# Altium footprint library atmel-packages.PcbLib: 6 footprints
Each footprint in its own frame and in the unit in brackets; x right, y up, seen from the top. Pads: shape width x height; smd on the part's side, far side on the other; paste and mask are expansions set on the pad; w line width, h text height; cw(c..) or ccw(c..) is an arc to the next point about the centre after c.
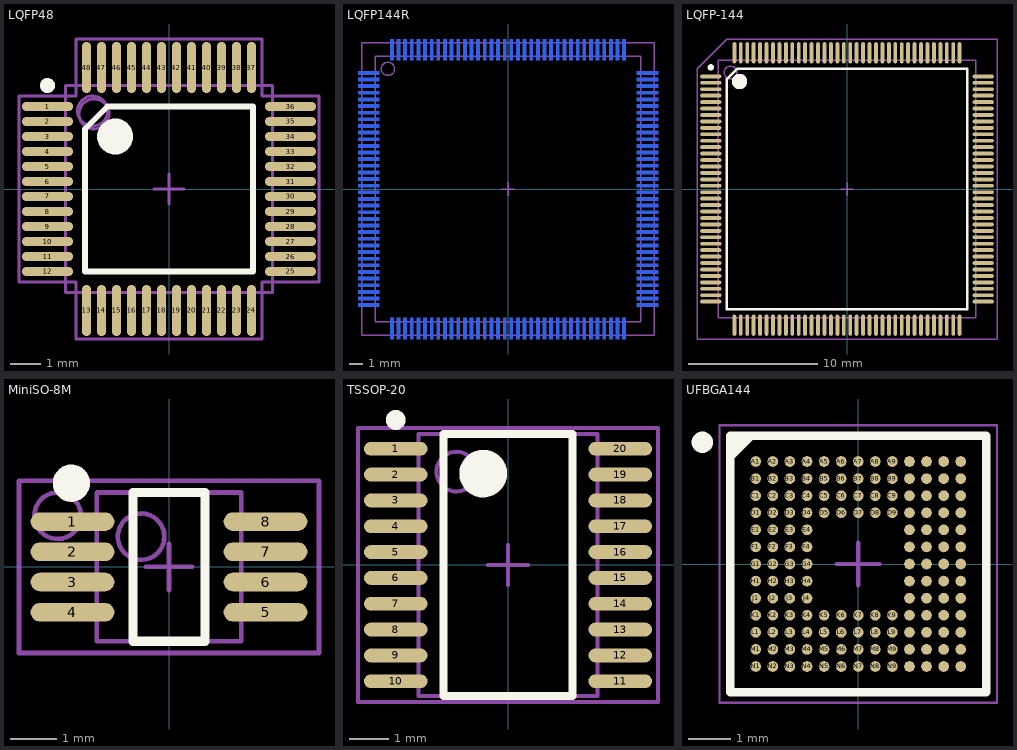
[diagram p0: the footprints below, top view; thin cyan lines are the x and y axes]

## LQFP48 [mm] "TSQFP, 48-Leads, Body 9.0x8.0mm (max), Pitch 0.50mm, IPC Medium Density"
height 1.6
pads (48):
  oval 1.7x0.3 smd: 1(-4.05,2.75) 2(-4.05,2.25) 3(-4.05,1.75) 4(-4.05,1.25) 5(-4.05,0.75) 6(-4.05,0.25) 7(-4.05,-0.25) 8(-4.05,-0.75) 9(-4.05,-1.25) 10(-4.05,-1.75) 11(-4.05,-2.25) 12(-4.05,-2.75) 25(4.05,-2.75) 26(4.05,-2.25) 27(4.05,-1.75) 28(4.05,-1.25) 29(4.05,-0.75) 30(4.05,-0.25) 31(4.05,0.25) 32(4.05,0.75) 33(4.05,1.25) 34(4.05,1.75) 35(4.05,2.25) 36(4.05,2.75)
  oval 0.3x1.7 smd: 13(-2.75,-4.05) 14(-2.25,-4.05) 15(-1.75,-4.05) 16(-1.25,-4.05) 17(-0.75,-4.05) 18(-0.25,-4.05) 19(0.25,-4.05) 20(0.75,-4.05) 21(1.25,-4.05) 22(1.75,-4.05) 23(2.25,-4.05) 24(2.75,-4.05) 37(2.75,4.05) 38(2.25,4.05) 39(1.75,4.05) 40(1.25,4.05) 41(0.75,4.05) 42(0.25,4.05) 43(-0.25,4.05) 44(-0.75,4.05) 45(-1.25,4.05) 46(-1.75,4.05) 47(-2.25,4.05) 48(-2.75,4.05)
Top Overlay:
  circle w0.25: c-4.05,3.45 r0.125
  circle w0.6: c-1.8,1.75 r0.3
  lines w0.2: -2.8,-2.75 -2.8,2 -2.05,2.75 2.8,2.75 2.8,-2.75 -2.8,-2.75
Mechanical 13:
  circle w0.1: c-2.5,2.5 r0.5
  lines w0.1: -0.5,0 0.5,0 ; 0,-0.5 0,0.5 ; -3.45,-3.45 -3.45,3.45 3.45,3.45 3.45,-3.45 -3.45,-3.45
Mechanical 15:
  circle w0.1: c-2.545,2.6 r0.5
  lines w0.1: -5,-3.1 -5,3.1 -3.1,3.1 -3.1,5 3.1,5 3.1,3.1 5,3.1 5,-3.1 3.1,-3.1 3.1,-5 -3.1,-5 -3.1,-3.1 -5,-3.1
  text ".Designator" at -1.913,-0.254 h0.5
3D body "User Library-QFP (MS-026)LQFP-48 (MS-026-BBC).STEP": height 1.5, standoff 0, extent -4.504,-4.504 4.504,4.504

## LQFP144R [mm] "TSQFP, 144-Leads, Body 22.0x22.0mm (max), Pitch 0.50mm, IPC Medium Density"
height 1.6
pads (144):
  rect 1.6x0.25 smd far side: 1(-10.5,8.75) 2(-10.5,8.25) 3(-10.5,7.75) 4(-10.5,7.25) 5(-10.5,6.75) 6(-10.5,6.25) 7(-10.5,5.75) 8(-10.5,5.25) 9(-10.5,4.75) 10(-10.5,4.25) 11(-10.5,3.75) 12(-10.5,3.25) 13(-10.5,2.75) 14(-10.5,2.25) 15(-10.5,1.75) 16(-10.5,1.25) 17(-10.5,0.75) 18(-10.5,0.25) 19(-10.5,-0.25) 20(-10.5,-0.75) 21(-10.5,-1.25) 22(-10.5,-1.75) 23(-10.5,-2.25) 24(-10.5,-2.75) 25(-10.5,-3.25) 26(-10.5,-3.75) 27(-10.5,-4.25) 28(-10.5,-4.75) 29(-10.5,-5.25) 30(-10.5,-5.75) 31(-10.5,-6.25) 32(-10.5,-6.75) 33(-10.5,-7.25) 34(-10.5,-7.75) 35(-10.5,-8.25) 36(-10.5,-8.75) 73(10.5,-8.75) 74(10.5,-8.25) 75(10.5,-7.75) 76(10.5,-7.25) 77(10.5,-6.75) 78(10.5,-6.25) 79(10.5,-5.75) 80(10.5,-5.25) 81(10.5,-4.75) 82(10.5,-4.25) 83(10.5,-3.75) 84(10.5,-3.25) 85(10.5,-2.75) 86(10.5,-2.25) 87(10.5,-1.75) 88(10.5,-1.25) 89(10.5,-0.75) 90(10.5,-0.25) 91(10.5,0.25) 92(10.5,0.75) 93(10.5,1.25) 94(10.5,1.75) 95(10.5,2.25) 96(10.5,2.75) 97(10.5,3.25) 98(10.5,3.75) 99(10.5,4.25) 100(10.5,4.75) 101(10.5,5.25) 102(10.5,5.75) 103(10.5,6.25) 104(10.5,6.75) 105(10.5,7.25) 106(10.5,7.75) 107(10.5,8.25) 108(10.5,8.75)
  rect 0.25x1.6 smd far side: 37(-8.75,-10.5) 38(-8.25,-10.5) 39(-7.75,-10.5) 40(-7.25,-10.5) 41(-6.75,-10.5) 42(-6.25,-10.5) 43(-5.75,-10.5) 44(-5.25,-10.5) 45(-4.75,-10.5) 46(-4.25,-10.5) 47(-3.75,-10.5) 48(-3.25,-10.5) 49(-2.75,-10.5) 50(-2.25,-10.5) 51(-1.75,-10.5) 52(-1.25,-10.5) 53(-0.75,-10.5) 54(-0.25,-10.5) 55(0.25,-10.5) 56(0.75,-10.5) 57(1.25,-10.5) 58(1.75,-10.5) 59(2.25,-10.5) 60(2.75,-10.5) 61(3.25,-10.5) 62(3.75,-10.5) 63(4.25,-10.5) 64(4.75,-10.5) 65(5.25,-10.5) 66(5.75,-10.5) 67(6.25,-10.5) 68(6.75,-10.5) 69(7.25,-10.5) 70(7.75,-10.5) 71(8.25,-10.5) 72(8.75,-10.5) 109(8.75,10.5) 110(8.25,10.5) 111(7.75,10.5) 112(7.25,10.5) 113(6.75,10.5) 114(6.25,10.5) 115(5.75,10.5) 116(5.25,10.5) 117(4.75,10.5) 118(4.25,10.5) 119(3.75,10.5) 120(3.25,10.5) 121(2.75,10.5) 122(2.25,10.5) 123(1.75,10.5) 124(1.25,10.5) 125(0.75,10.5) 126(0.25,10.5) 127(-0.25,10.5) 128(-0.75,10.5) 129(-1.25,10.5) 130(-1.75,10.5) 131(-2.25,10.5) 132(-2.75,10.5) 133(-3.25,10.5) 134(-3.75,10.5) 135(-4.25,10.5) 136(-4.75,10.5) 137(-5.25,10.5) 138(-5.75,10.5) 139(-6.25,10.5) 140(-6.75,10.5) 141(-7.25,10.5) 142(-7.75,10.5) 143(-8.25,10.5) 144(-8.75,10.5)
Mechanical 13:
  circle w0.1: c-9.05,9.05 r0.5
  lines w0.1: -0.5,0 0.5,0 ; 0,-0.5 0,0.5 ; -10,-10 -10,10 10,10 10,-10 -10,-10
Mechanical 15:
  lines w0.1: -0.5,0 0.5,0 ; 0,-0.5 0,0.5 ; -11,-11 -11,11 11,11 11,-11 -11,-11

## LQFP-144 [mm] "TSQFP, 144-Leads, Body 22.0x22.0mm (max), Pitch 0.50mm, IPC Medium Density"
height 1.6
pads (144):
  oval 1.65x0.3 smd: 1(-10.575,8.75) 2(-10.575,8.25) 3(-10.575,7.75) 4(-10.575,7.25) 5(-10.575,6.75) 6(-10.575,6.25) 7(-10.575,5.75) 8(-10.575,5.25) 9(-10.575,4.75) 10(-10.575,4.25) 11(-10.575,3.75) 12(-10.575,3.25) 13(-10.575,2.75) 14(-10.575,2.25) 15(-10.575,1.75) 16(-10.575,1.25) 17(-10.575,0.75) 18(-10.575,0.25) 19(-10.575,-0.25) 20(-10.575,-0.75) 21(-10.575,-1.25) 22(-10.575,-1.75) 23(-10.575,-2.25) 24(-10.575,-2.75) 25(-10.575,-3.25) 26(-10.575,-3.75) 27(-10.575,-4.25) 28(-10.575,-4.75) 29(-10.575,-5.25) 30(-10.575,-5.75) 31(-10.575,-6.25) 32(-10.575,-6.75) 33(-10.575,-7.25) 34(-10.575,-7.75) 35(-10.575,-8.25) 36(-10.575,-8.75) 73(10.575,-8.75) 74(10.575,-8.25) 75(10.575,-7.75) 76(10.575,-7.25) 77(10.575,-6.75) 78(10.575,-6.25) 79(10.575,-5.75) 80(10.575,-5.25) 81(10.575,-4.75) 82(10.575,-4.25) 83(10.575,-3.75) 84(10.575,-3.25) 85(10.575,-2.75) 86(10.575,-2.25) 87(10.575,-1.75) 88(10.575,-1.25) 89(10.575,-0.75) 90(10.575,-0.25) 91(10.575,0.25) 92(10.575,0.75) 93(10.575,1.25) 94(10.575,1.75) 95(10.575,2.25) 96(10.575,2.75) 97(10.575,3.25) 98(10.575,3.75) 99(10.575,4.25) 100(10.575,4.75) 101(10.575,5.25) 102(10.575,5.75) 103(10.575,6.25) 104(10.575,6.75) 105(10.575,7.25) 106(10.575,7.75) 107(10.575,8.25) 108(10.575,8.75)
  oval 0.3x1.65 smd: 37(-8.75,-10.575) 38(-8.25,-10.575) 39(-7.75,-10.575) 40(-7.25,-10.575) 41(-6.75,-10.575) 42(-6.25,-10.575) 43(-5.75,-10.575) 44(-5.25,-10.575) 45(-4.75,-10.575) 46(-4.25,-10.575) 47(-3.75,-10.575) 48(-3.25,-10.575) 49(-2.75,-10.575) 50(-2.25,-10.575) 51(-1.75,-10.575) 52(-1.25,-10.575) 53(-0.75,-10.575) 54(-0.25,-10.575) 55(0.25,-10.575) 56(0.75,-10.575) 57(1.25,-10.575) 58(1.75,-10.575) 59(2.25,-10.575) 60(2.75,-10.575) 61(3.25,-10.575) 62(3.75,-10.575) 63(4.25,-10.575) 64(4.75,-10.575) 65(5.25,-10.575) 66(5.75,-10.575) 67(6.25,-10.575) 68(6.75,-10.575) 69(7.25,-10.575) 70(7.75,-10.575) 71(8.25,-10.575) 72(8.75,-10.575) 109(8.75,10.575) 110(8.25,10.575) 111(7.75,10.575) 112(7.25,10.575) 113(6.75,10.575) 114(6.25,10.575) 115(5.75,10.575) 116(5.25,10.575) 117(4.75,10.575) 118(4.25,10.575) 119(3.75,10.575) 120(3.25,10.575) 121(2.75,10.575) 122(2.25,10.575) 123(1.75,10.575) 124(1.25,10.575) 125(0.75,10.575) 126(0.25,10.575) 127(-0.25,10.575) 128(-0.75,10.575) 129(-1.25,10.575) 130(-1.75,10.575) 131(-2.25,10.575) 132(-2.75,10.575) 133(-3.25,10.575) 134(-3.75,10.575) 135(-4.25,10.575) 136(-4.75,10.575) 137(-5.25,10.575) 138(-5.75,10.575) 139(-6.25,10.575) 140(-6.75,10.575) 141(-7.25,10.575) 142(-7.75,10.575) 143(-8.25,10.575) 144(-8.75,10.575)
Top Overlay:
  circle w0.6: c-8.35,8.35 r0.3
  circle w0.25: c-10.575,9.45 r0.125
  lines w0.2: -9.35,-9.35 9.35,-9.35 9.35,9.35 -8.5,9.35 -9.35,8.5 -9.35,-9.35
Mechanical 13:
  circle w0.1: c-9.05,9.05 r0.5
  lines w0.1: -0.5,0 0.5,0 ; 0,-0.5 0,0.5 ; -10,-10 10,-10 10,10 -10,10 -10,-10
Mechanical 15:
  lines w0.1: -0.5,0 0.5,0 ; 0,-0.5 0,0.5 ; -11.65,-11.65 11.65,-11.65 11.65,11.65 -9.35,11.65 -11.65,9.35 -11.65,-11.65
  text ".Designator" at -2.286,-0.127 h0.8
3D body "User Library-LQFP144-1.step": height 1.58, standoff -0.02, extent -11,-11 11,11

## MiniSO-8M [mm] "TSOP, 8-Leads, Body 3.2x3.1mm (max), Pitch 0.65mm, IPC Medium Density"
height 1.1
pads (8):
  oval 1.8x0.4 smd: 1(-2.075,0.975) 2(-2.075,0.325) 3(-2.075,-0.325) 4(-2.075,-0.975) 5(2.075,-0.975) 6(2.075,-0.325) 7(2.075,0.325) 8(2.075,0.975)
Top Overlay:
  circle w0.4: c-2.1,1.8 r0.2
  lines w0.2: -0.775,-1.6 -0.775,1.6 0.775,1.6 0.775,-1.6 -0.775,-1.6
Mechanical 13:
  circle w0.1: c-0.6,0.65 r0.5
  lines w0.1: -0.5,0 0.5,0 ; 0,-0.5 0,0.5 ; -1.55,-1.6 -1.55,1.6 1.55,1.6 1.55,-1.6 -1.55,-1.6
Mechanical 15:
  circle w0.1: c-2.395,1.1 r0.5
  lines w0.1: -3.225,-1.85 -3.225,1.85 3.225,1.85 3.225,-1.85 -3.225,-1.85
  text ".Designator" at 0.15,1.625 h0.5
3D body "MiniSO-8.step": height 1.1, standoff 0, extent -2.478,-1.6 2.478,1.6

## TSSOP-20 [mm] "TSOP, 20-Leads, Body 6.6x4.5mm (max), Pitch 0.65mm, IPC Medium Density"
height 1.2
pads (20):
  oval 1.6x0.35 smd: 1(-2.825,2.925) 2(-2.825,2.275) 3(-2.825,1.625) 4(-2.825,0.975) 5(-2.825,0.325) 6(-2.825,-0.325) 7(-2.825,-0.975) 8(-2.825,-1.625) 9(-2.825,-2.275) 10(-2.825,-2.925) 11(2.825,-2.925) 12(2.825,-2.275) 13(2.825,-1.625) 14(2.825,-0.975) 15(2.825,-0.325) 16(2.825,0.325) 17(2.825,0.975) 18(2.825,1.625) 19(2.825,2.275) 20(2.825,2.925)
Top Overlay:
  circle w0.6: c-0.625,2.3 r0.3
  circle w0.25: c-2.825,3.65 r0.125
  lines w0.2: -1.625,-3.3 1.625,-3.3 1.625,3.3 -1.625,3.3 -1.625,-3.3
Mechanical 13:
  circle w0.1: c-1.3,2.35 r0.5
  lines w0.1: -0.5,0 0.5,0 ; 0,-0.5 0,0.5 ; -2.25,-3.3 2.25,-3.3 2.25,3.3 -2.25,3.3 -2.25,-3.3
Mechanical 15:
  lines w0.1: -3.775,-3.45 3.775,-3.45 3.775,3.45 -3.775,3.45 -3.775,-3.45
3D body "User Library-IPC SO.step": height 1.35, standoff 0, extent -3.228,-3.3 3.228,3.3

## UFBGA144 [mm] "BGA, 144-Leads, Body 6.00x6.00mmx0.60mm, Pitch 0.40mm"
height 0.6
pads (144):
  round 0.25 smd paste-0.05 mask-0.05: A1(-2.4,2.4) A2(-2,2.4) A3(-1.6,2.4) A4(-1.2,2.4) A5(-0.8,2.4) A6(-0.4,2.4) A7(0,2.4) A8(0.4,2.4) A9(0.8,2.4) A10(1.2,2.4) A11(1.6,2.4) A12(2,2.4) A13(2.4,2.4) B1(-2.4,2) B2(-2,2) B3(-1.6,2) B4(-1.2,2) B5(-0.8,2) B6(-0.4,2) B7(0,2) B8(0.4,2) B9(0.8,2) B10(1.2,2) B11(1.6,2) B12(2,2) B13(2.4,2) C1(-2.4,1.6) C2(-2,1.6) C3(-1.6,1.6) C4(-1.2,1.6) C5(-0.8,1.6) C6(-0.4,1.6) C7(0,1.6) C8(0.4,1.6) C9(0.8,1.6) C10(1.2,1.6) C11(1.6,1.6) C12(2,1.6) C13(2.4,1.6) D1(-2.4,1.2) D2(-2,1.2) D3(-1.6,1.2) D4(-1.2,1.2) D5(-0.8,1.2) D6(-0.4,1.2) D7(0,1.2) D8(0.4,1.2) D9(0.8,1.2) D10(1.2,1.2) D11(1.6,1.2) D12(2,1.2) D13(2.4,1.2) E1(-2.4,0.8) E2(-2,0.8) E3(-1.6,0.8) E4(-1.2,0.8) E10(1.2,0.8) E11(1.6,0.8) E12(2,0.8) E13(2.4,0.8) F1(-2.4,0.4) F2(-2,0.4) F3(-1.6,0.4) F4(-1.2,0.4) F10(1.2,0.4) F11(1.6,0.4) F12(2,0.4) F13(2.4,0.4) G1(-2.4,0) G2(-2,0) G3(-1.6,0) G4(-1.2,0) G10(1.2,0) G11(1.6,0) G12(2,0) G13(2.4,0) H1(-2.4,-0.4) H2(-2,-0.4) H3(-1.6,-0.4) H4(-1.2,-0.4) H10(1.2,-0.4) H11(1.6,-0.4) H12(2,-0.4) H13(2.4,-0.4) J1(-2.4,-0.8) J2(-2,-0.8) J3(-1.6,-0.8) J4(-1.2,-0.8) J10(1.2,-0.8) J11(1.6,-0.8) J12(2,-0.8) J13(2.4,-0.8) K1(-2.4,-1.2) K2(-2,-1.2) K3(-1.6,-1.2) K4(-1.2,-1.2) K5(-0.8,-1.2) K6(-0.4,-1.2) K7(0,-1.2) K8(0.4,-1.2) K9(0.8,-1.2) K10(1.2,-1.2) K11(1.6,-1.2) K12(2,-1.2) K13(2.4,-1.2) L1(-2.4,-1.6) L2(-2,-1.6) L3(-1.6,-1.6) L4(-1.2,-1.6) L5(-0.8,-1.6) L6(-0.4,-1.6) L7(0,-1.6) L8(0.4,-1.6) L9(0.8,-1.6) L10(1.2,-1.6) L11(1.6,-1.6) L12(2,-1.6) L13(2.4,-1.6) M1(-2.4,-2) M2(-2,-2) M3(-1.6,-2) M4(-1.2,-2) M5(-0.8,-2) M6(-0.4,-2) M7(0,-2) M8(0.4,-2) M9(0.8,-2) M10(1.2,-2) M11(1.6,-2) M12(2,-2) M13(2.4,-2) N1(-2.4,-2.4) N2(-2,-2.4) N3(-1.6,-2.4) N4(-1.2,-2.4) N5(-0.8,-2.4) N6(-0.4,-2.4) N7(0,-2.4) N8(0.4,-2.4) N9(0.8,-2.4) N10(1.2,-2.4) N11(1.6,-2.4) N12(2,-2.4) N13(2.4,-2.4)
Top Overlay:
  circle w0.25: c-3.65,2.85 r0.125
  region: -2.507,3 -3,2.507 -3,3
  lines w0.2: -3,2.507 -2.507,3 ; -3,-3 -3,3 3,3 3,-3 -3,-3
Mechanical 13:
  lines w0.1: -3,-3 -3,3 3,3 3,-3 -3,-3
Mechanical 15:
  lines w0.05: -3.25,-3.25 -3.25,3.25 3.25,3.25 3.25,-3.25 -3.25,-3.25
  lines w0.1: -0.5,0 0.5,0 ; 0,-0.5 0,0.5
3D body: height 0.6, standoff 0.21, extent -3,-3 3,3